# Altium schematic symbol library RECOM-Reg.SchLib: 1 symbol
Pins are listed as number, name and electrical type; pins without a type are passive.

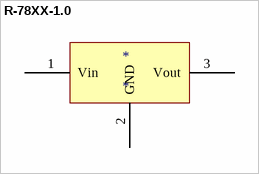
[diagram p0: symbol R-78XX-1.0]

## R-78XX-1.0
designator *
footprint R-785.0-1.0
pins: 1 Vin, 2 GND, 3 Vout